# EAGLE library part S25FL256S (library ic)
FLASH - NOR Memory IC 256Mb (32M x 8) SPI - Quad I/O WSON-8 (6x8) Source: Datasheet <https://www.cypress.com/file/448601/download> Check prices <https://www.mouser.de/ProductDetail/Cypress-Spansion/S25FL256SAGNFI001?qs=rDGpJoRV1kKsEn98ei3h6w%3D%3D>
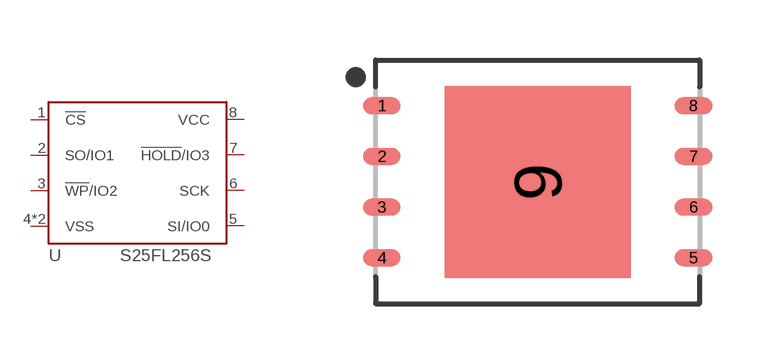
[diagram p15: symbol with the pads of WSON6X8MM; footprint WSON6X8MM]

Designator prefix U

## S25FL256S  [WSON6X8MM]
1  !CS
2  SO/IO1
3  !WP!/IO2
4  VSS
5  SI/IO0
6  SCK
7  !HOLD!/IO3
8  VCC
9  VSS

## Footprint WSON6X8MM (pad centres in mm)
8-SON (DFN), 1.27 mm pitch, 6.00 X 8.00 X 0.75 mm body, 4.80 X 4.65 mm thermal pad 8-pin SON (DFN) package with 1.27 mm pitch with body size 6.00 X 8.00 X 0.75 mm and thermal pad size 4.80 X 4.65 mm
smd 0.938 x 0.42: 1 -3.896,1.905; 2 -3.896,0.635; 3 -3.896,-0.635; 4 -3.896,-1.905; 5 3.896,-1.905; 6 3.896,-0.635; 7 3.896,0.635; 8 3.896,1.905
smd 4.65 x 4.8: 9 0,0